# EAGLE library part EEE-FP1E101AV (library EEE-FP1E101AV)
Aluminium Electroyltic Capacitor, Radial, Vibration-Proof Source: Datasheet <http://industrial.panasonic.com/cdbs/www-data/pdf/RDE0000/ABA0000C1184.pdf>
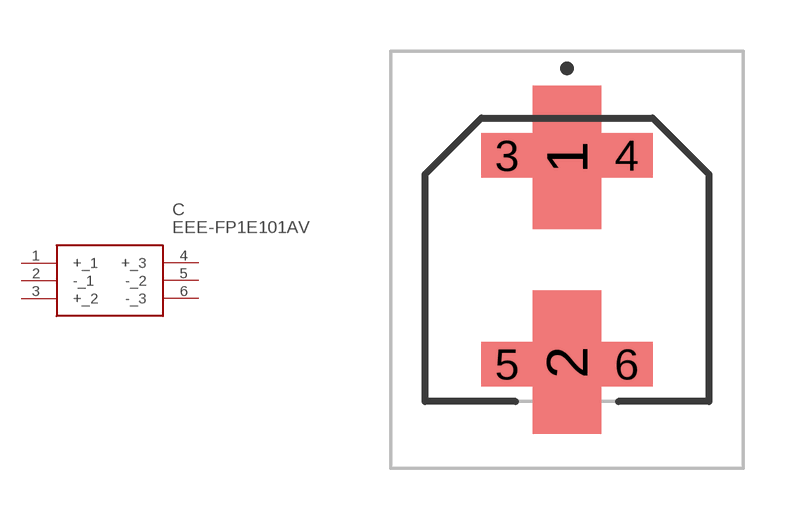
[diagram p0: symbol with the pads of EEEFP0J331AV; footprint EEEFP0J331AV]

Designator prefix C

## EEE-FP1E101AV (Description: Aluminium Electroyltic Capacitor, Radial, Vibration-Proof; Height: 6.5mm; Manufacturer_Name: Panasonic; Manufacturer_Part_Number: EEE-FP1E101AV; Mouser_Part_Number: 667-EEE-FP1E101AV; Mouser_Price-Stock: https://www.mouser.co.uk/ProductDetail/Panasonic/EEE-FP1E101AV?qs=PzGy0jfpSMucYz8VB9%2FWvg%3D%3D)  [EEEFP0J331AV]
1  +_1
2  -_1
3  +_2
4  +_3
5  -_2
6  -_3

## Footprint EEEFP0J331AV (pad centres in mm)
VibrationProof_E
smd 2 x 4.2: 1 0,3; 2 0,-3
smd 1.5 x 1.3: 3 -1.75,3.05; 4 1.75,3.05; 5 -1.75,-3.05; 6 1.75,-3.05